# EAGLE library part ZED-F9P (library ZED-F9P_Sparkfun)
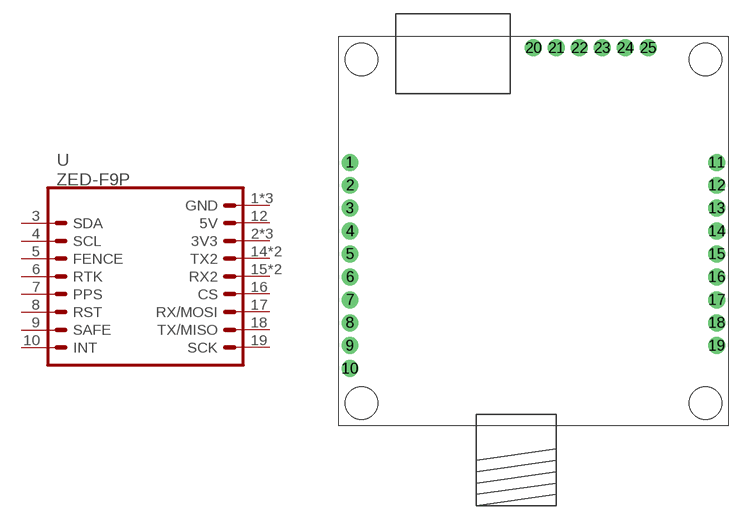
[diagram p0: symbol with the pads of ZED_F9P; footprint ZED_F9P]

Designator prefix -

## ZED-F9P  [ZED_F9P]
1  GND  pwr
2  3V3  pwr
3  SDA
4  SCL
5  FENCE
6  RTK
7  PPS
8  RST
9  SAFE
10  INT
11  GND  pwr
12  5V  pwr
13  3V3  pwr
14  TX2
15  RX2
16  CS
17  RX/MOSI
18  TX/MISO
19  SCK
20  GND  pwr
22  3V3  pwr
23  RX2
24  TX2

## Footprint ZED_F9P (pad centres in mm)
drill 1.016 pad 1.88: 1 -20.32,5.08; 2 -20.32,2.54; 3 -20.32,0; 4 -20.32,-2.54; 5 -20.32,-5.08; 6 -20.32,-7.62; 7 -20.32,-10.16; 8 -20.32,-12.7; 9 -20.32,-15.24; 10 -20.32,-17.78; 11 20.32,5.08; 12 20.32,2.54; 13 20.32,0; 14 20.32,-2.54; 15 20.32,-5.08; 16 20.32,-7.62; 17 20.32,-10.16; 18 20.32,-12.7; 19 20.32,-15.24; 20 0,17.78; 21 2.54,17.78; 22 5.08,17.78; 23 7.62,17.78; 24 10.16,17.78; 25 12.7,17.78